# EAGLE library part SFV14R-1STE1LF (library FCI-tkr)
FFC/FPC CONNECTOR, RECEPTACLE 14POS 1ROW
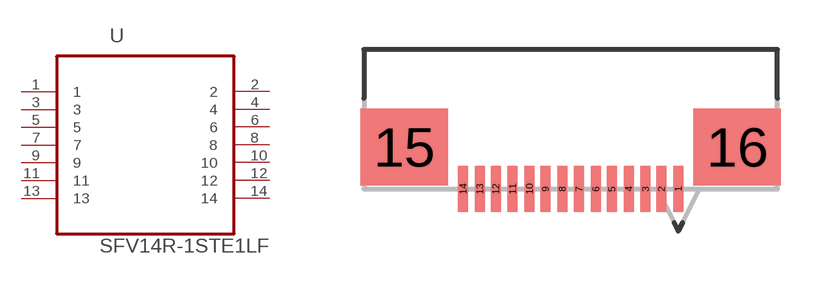
[diagram p46: symbol with the pads of FCI_SFV14R-1STE1LF; footprint FCI_SFV14R-1STE1LF]

Designator prefix U

## SFV14R-1STE1LF (MPN: SFV14R-1STE1LF; OC_FARNELL: -; OC_NEWARK: 62K5570; PACKAGE: CONNECTOR - 14POS; SUPPLIER: FCI)  [FCI_SFV14R-1STE1LF]
1  1  pas
2  2  pas
3  3  pas
4  4  pas
5  5  pas
6  6  pas
7  7  pas
8  8  pas
9  9  pas
10  10  pas
11  11  pas
12  12  pas
13  13  pas
14  14  pas

## Footprint FCI_SFV14R-1STE1LF (pad centres in mm)
smd 0.305 x 1.397: 1 3.251,2.083; 2 2.743,2.083; 3 2.261,2.083; 4 1.753,2.083; 5 1.245,2.083; 6 0.762,2.083; 7 0.254,2.083; 8 -0.254,2.083; 9 -0.762,2.083; 10 -1.245,2.083; 11 -1.753,2.083; 12 -2.261,2.083; 13 -2.743,2.083; 14 -3.251,2.083
smd 2.642 x 2.311: 15 -5.029,3.353; 16 5.029,3.353